# Altium footprint library 素材库.PcbLib: 24 footprints (part 2 of 2)
Each footprint in its own frame and in the unit in brackets; x right, y up, seen from the top. Pads: shape width x height; smd on the part's side, far side on the other; paste and mask are expansions set on the pad; w line width, h text height; cw(c..) or ccw(c..) is an arc to the next point about the centre after c.
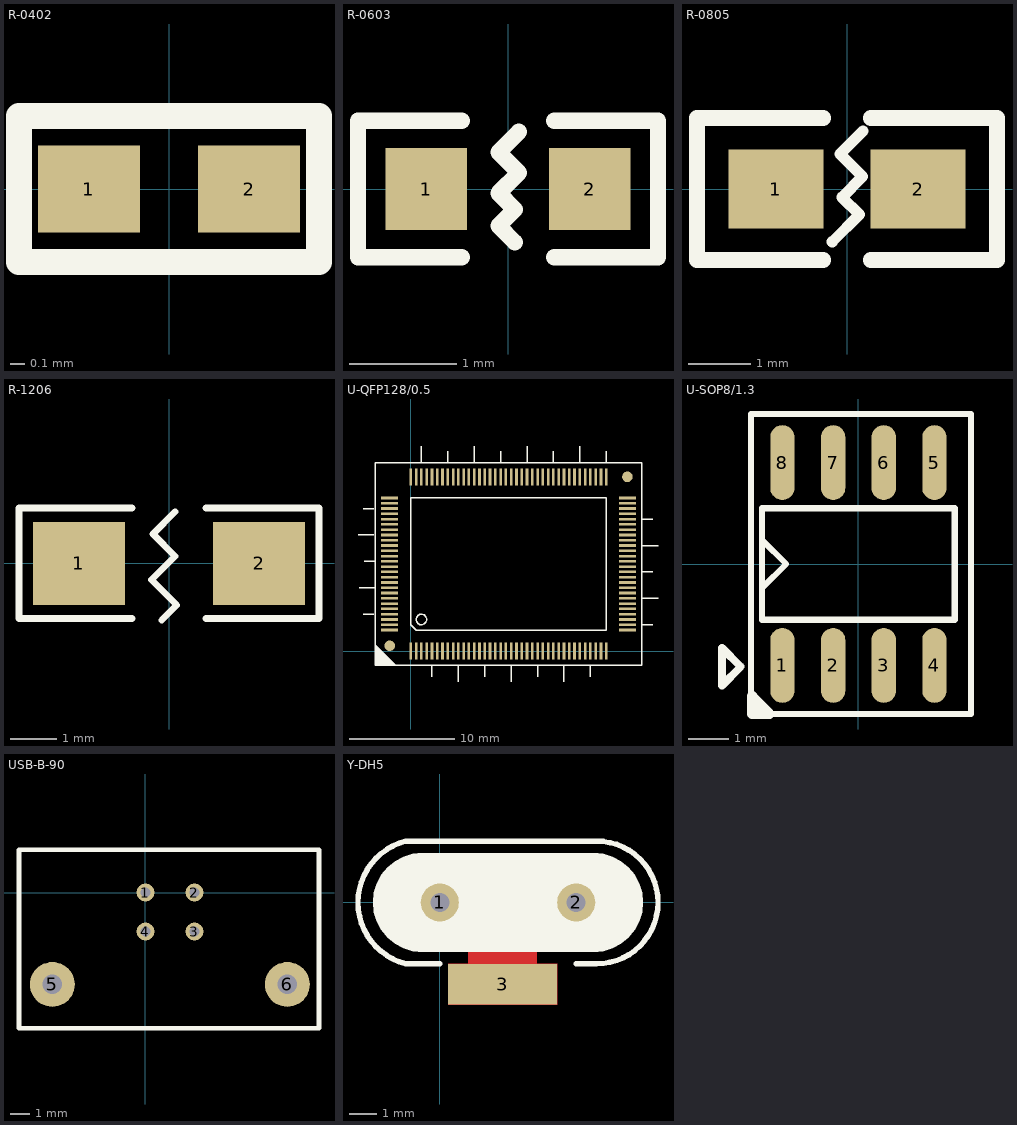
[diagram p1: the footprints below, top view; thin cyan lines are the x and y axes]

## R-0402 [mm]
pads (2):
  rect 0.7x0.6 smd: 1(-0.55,0) 2(0.55,0)
Top Overlay:
  lines w0.178: -1.03,-0.5 -1.03,0.5 1.03,0.5 1.03,-0.5 -1.03,-0.5

## R-0603 [mil]
height 100
pads (2):
  rect 30x30 smd: 1(-30,0) 2(30,0)
Top Overlay:
  lines w6: -17,-25 -55,-25 -55,25 -17,25 ; 2.5,-19.5 -3.5,-13.5 2.5,-7.5 -3.5,-1.5 4,6 -3.5,13.5 4,21 ; 17,-25 55,-25 55,25 17,25

## R-0805 [mil]
pads (2):
  rect 60x50 smd: 1(-45,0) 2(45,0)
Top Overlay:
  lines w7: -9.33,-33.41 7.85,-16.22 -3.12,-5.24 9.92,7.81 -4.38,22.12 10.19,36.7
  lines w10: -15,-45 -95,-45 -95,45 -15,45 ; 15,-45 95,-45 95,45 15,45

## R-1206 [mm]
pads (2):
  rect 2x1.8 smd: 1(-1.95,0) 2(1.95,0)
Top Overlay:
  lines w0.14: -0.159,-1.231 0.166,-0.906 -0.381,-0.358 0.132,0.155 -0.348,0.635 0.137,1.12
  lines w0.15: -0.8,-1.2 -3.25,-1.2 -3.25,1.2 -0.8,1.2 ; 0.8,-1.2 3.25,-1.2 3.25,1.2 0.8,1.2

## U-QFP128/0.5 [mm]
pads (131):
  rect 0.25x1.6 smd: 1(0,0) 2(0.5,0) 3(1,0) 4(1.5,0) 5(2,0) 6(2.5,0) 7(3,0) 8(3.5,0) 9(4,0) 10(4.5,0) 11(5,0) 12(5.5,0) 13(6,0) 14(6.5,0) 15(7,0) 16(7.5,0) 17(8,0) 18(8.5,0) 19(9,0) 20(9.5,0) 21(10,0) 22(10.5,0) 23(11,0) 24(11.5,0) 25(12,0) 26(12.5,0) 27(13,0) 28(13.5,0) 29(14,0) 30(14.5,0) 31(15,0) 32(15.5,0) 33(16,0) 34(16.5,0) 35(17,0) 36(17.5,0) 37(18,0) 38(18.5,0) 65(18.5,16.5) 66(18,16.5) 67(17.5,16.5) 68(17,16.5) 69(16.5,16.5) 70(16,16.5) 71(15.5,16.5) 72(15,16.5) 73(14.5,16.5) 74(14,16.5) 75(13.5,16.5) 76(13,16.5) 77(12.5,16.5) 78(12,16.5) 79(11.5,16.5) 80(11,16.5) 81(10.5,16.5) 82(10,16.5) 83(9.5,16.5) 84(9,16.5) 85(8.5,16.5) 86(8,16.5) 87(7.5,16.5) 88(7,16.5) 89(6.5,16.5) 90(6,16.5) 91(5.5,16.5) 92(5,16.5) 93(4.5,16.5) 94(4,16.5) 95(3.5,16.5) 96(3,16.5) 97(2.5,16.5) 98(2,16.5) 99(1.5,16.5) 100(1,16.5) 101(0.5,16.5) 102(0,16.5)
  rect 1.6x0.25 smd: 39(20.5,2) 40(20.5,2.5) 41(20.5,3) 42(20.5,3.5) 43(20.5,4) 44(20.5,4.5) 45(20.5,5) 46(20.5,5.5) 47(20.5,6) 48(20.5,6.5) 49(20.5,7) 50(20.5,7.5) 51(20.5,8) 52(20.5,8.5) 53(20.5,9) 54(20.5,9.5) 55(20.5,10) 56(20.5,10.5) 57(20.5,11) 58(20.5,11.5) 59(20.5,12) 60(20.5,12.5) 61(20.5,13) 62(20.5,13.5) 63(20.5,14) 64(20.5,14.5) 103(-2,14.5) 104(-2,14) 105(-2,13.5) 106(-2,13) 107(-2,12.5) 108(-2,12) 109(-2,11.5) 110(-2,11) 111(-2,10.5) 112(-2,10) 113(-2,9.5) 114(-2,9) 115(-2,8.5) 116(-2,8) 117(-2,7.5) 118(-2,7) 119(-2,6.5) 120(-2,6) 121(-2,5.5) 122(-2,5) 123(-2,4.5) 124(-2,4) 125(-2,3.5) 126(-2,3) 127(-2,2.5) 128(-2,2)
  round 0 / inner round 1.524 / far side round 1.524 all layers, no hole: 129(20.5,0.512)
  round 1 smd: 130(20.5,16.5) 131(-2,0.512)
Top Overlay:
  circle w0.14: c1,3 r0.5
  lines w0.14: -5,11 -3.5,11 ; -4.9,6 -3.4,6 ; -4.5,3.5 -3.5,3.5 ; -4.5,13.5 -3.5,13.5 ; -4.4,8.5 -3.4,8.5 ; -3.3,-1.2 -3.2,-1.3 ; -3.3,-1.1 -3.3,-1 -3,-1.3 ; -3.3,-0.8 -2.8,-1.3 ; -3.3,-0.7 -3.3,-0.6 -2.6,-1.3 ; -3.3,-0.4 -2.4,-1.3 ; -3.3,-0.2 -2.2,-1.3 ; -3.3,0 -2,-1.3 ; -3.3,0.2 -1.8,-1.3 ; -3.3,0.3 -1.7,-1.3 ; -3.3,0.5 -1.5,-1.3 ; 1,17.9 1,19.4 ; 2,-2.4 2,-1.4 ; 3.5,17.9 3.5,18.9 ; 4.5,-2.9 4.5,-1.4 ; 6,17.9 6,19.4 ; 7,-2.4 7,-1.4 ; 8.5,17.9 8.5,18.9 ; 9.5,-2.9 9.5,-1.4 ; 11,17.9 11,19.4 ; 12,-2.4 12,-1.4 ; 13.5,17.9 13.5,18.9 ; 14.5,-2.9 14.5,-1.4 ; 16,17.9 16,19.4 ; 17,-2.4 17,-1.4 ; 18.5,17.9 18.5,18.9 ; 21.9,2.5 22.9,2.5 ; 21.9,5 23.4,5 ; 21.9,7.5 22.9,7.5 ; 21.9,10 23.4,10 ; 21.9,12.5 22.9,12.5 ; -3.35,-1.35 -3.35,17.85 21.85,17.85 21.85,-1.35 -3.35,-1.35 ; 0,2.5 0.5,2 18.5,2 18.5,14.5 0,14.5 0,2.5

## U-SOP8/1.3 [mil]
pads (8):
  oval 24x74 smd: 1(-75,-100) 2(-25,-100) 3(25,-100) 4(75,-100) 5(75,100) 6(25,100) 7(-25,100) 8(-75,100)
Top Overlay:
  lines w6: -95,-23.5 -71.38,0 -95,23.5 ; -106,-148 111,-148 111,148 -106,148 -106,-148 ; -95,-55 95,-55 95,55 -95,55 -95,-55
  lines w7.87: -134.58,-119.76 -134.58,-82.97 -116.18,-101.36 -134.58,-119.76
  lines w10: -104.94,-130.58 -87.69,-147.83 -104.78,-147.83 -104.78,-130.42

## USB-B-90 [mm]
pads (6):
  round 0.92 hole 0.5: 1(0,0) 2(2.512,0) 3(2.512,-2) 4(0,-2)
  round 2.3 hole 1: 5(-4.77,-4.71) 6(7.27,-4.71)
Top Overlay:
  lines w0.254: -6.477,-6.953 -6.477,2.191 8.89,2.191 8.89,-6.953 -6.477,-6.953

## Y-DH5 [mm]
pads (3):
  round 1.4 hole 0.7: 1(0,0) 2(5,0)
  rect 4x1.5 smd: 3(2.3,-3)
Top Layer:
  region: 1.05,-2.25 1.05,-1.5 3.55,-1.5 3.55,-2.25 4.3,-2.25 4.3,-3.75 0.3,-3.75 0.3,-2.25
Top Overlay:
  region: -0.8,1.8 5.8,1.8 5.988,1.782 6.328,1.678 6.642,1.51 6.918,1.284 7.144,1.009 7.312,0.695 7.415,0.354 7.45,0 7.415,-0.354 7.312,-0.695 7.144,-1.009 6.918,-1.284 6.642,-1.51 6.328,-1.678 5.988,-1.782 5.8,-1.8 -0.799,-1.8 -0.987,-1.782 -1.327,-1.678 -1.641,-1.51 -1.917,-1.285 -2.143,-1.009 -2.31,-0.695 -2.414,-0.354 -2.449,0 -2.414,0.354 -2.31,0.695 -2.143,1.009 -1.917,1.285 -1.641,1.51 -1.327,1.678 -0.987,1.782 -0.802,1.8
  lines w0.2: -1.252,2.25 ccw(c-0.679,0) -1.248,-2.25 ; -1.25,-2.25 0,-2.25 ; -1.25,2.25 5.736,2.25 ; 1,0 1.5,0 ; 1.5,-0.5 1.5,1 ; 3.5,-0.5 3.5,1 ; 3.5,0 4,0 ; 5,-2.25 5.736,-2.25 ; 5.734,-2.25 ccw(c5.75,0) 5.738,2.25 ; 2,-0.5 2,1 3,1 3,-0.5 2,-0.5